# Altium schematic symbol library kmilo17pet-NSC_Amplifier.SchLib: 1665 symbols (part 20 of 44)
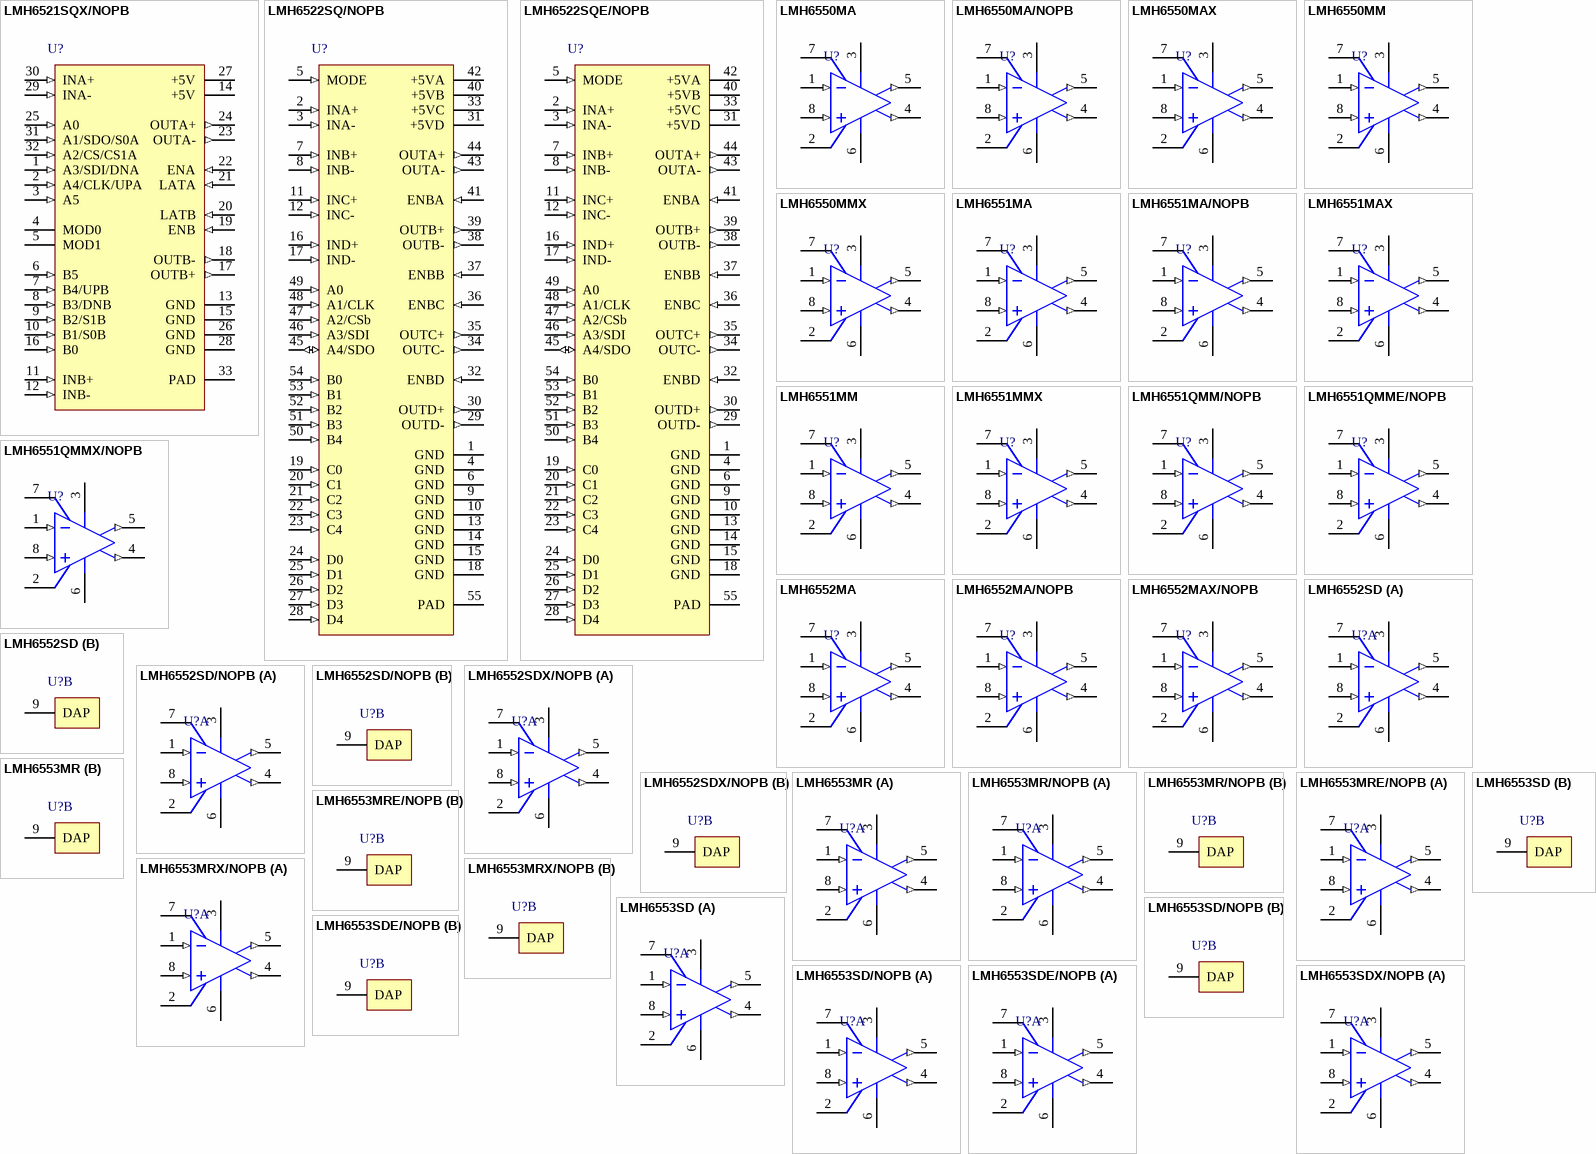
[diagram p103: symbols LMH6521SQX/NOPB to LMH6553SDX/NOPB]

## LMH6552SD/NOPB
designator U?
1.5 GHz Fully Differential Amplifier, 8-pin LLP, Pb-Free; PartNumber: LMH6552SD/NOPB; Manufacturer: National Semiconductor; PackageTopMarking: XYTT*6552; PowerWise: Y; CompType: Amplifiers; DatasheetVersion: Sep-2007; PackageVersion: revA, Jan-2004; PackageReference: SDA08C; PackageDescription: LLP, Plastic, Dual, 2.5 x 3.0 x 0.8mm Body, 8 Lead, 0.5mm Pitch, No Pullback; RoHS: Y; PinCount: 8; High-Reliability: Y; ComponentLink1Description: Manufacturer URL; ComponentLink1URL: http://www.national.com/; ComponentLink2Description: LMH6552 Datasheet; ComponentLink2URL: http://www.national.com/ds/LM/LMH6552.pdf; ComponentLink3Description: LMH6552 Web Page; ComponentLink3URL: http://www.national.com/pf/LM/LMH6552.html; ComponentLink4Description: SDA08C Package Page; ComponentLink4URL: http://www.national.com/packaging/folders/sda08c.html
footprint SDA08C (SON, 8-Leads, Body 2.5x3mm, Pitch 0.5mm, NSC Recommended)
part A pins: 1 IN- (in), 2 VCM, 3 V+ (power), 4 OUT+ (out), 5 OUT- (out), 6 V- (power), 7 EN, 8 IN+ (in)
part B pins: 9 DAP

## LMH6552SDX/NOPB
designator U?
1.5 GHz Fully Differential Amplifier, 8-pin LLP, Pb-Free; PartNumber: LMH6552SDX/NOPB; Manufacturer: National Semiconductor; PackageTopMarking: XYTT*6552; PowerWise: Y; CompType: Amplifiers; DatasheetVersion: Sep-2007; PackageVersion: revA, Jan-2004; PackageReference: SDA08C; PackageDescription: LLP, Plastic, Dual, 2.5 x 3.0 x 0.8mm Body, 8 Lead, 0.5mm Pitch, No Pullback; RoHS: Y; PinCount: 8; High-Reliability: Y; ComponentLink1Description: Manufacturer URL; ComponentLink1URL: http://www.national.com/; ComponentLink2Description: LMH6552 Datasheet; ComponentLink2URL: http://www.national.com/ds/LM/LMH6552.pdf; ComponentLink3Description: LMH6552 Web Page; ComponentLink3URL: http://www.national.com/pf/LM/LMH6552.html; ComponentLink4Description: SDA08C Package Page; ComponentLink4URL: http://www.national.com/packaging/folders/sda08c.html
footprint SDA08C (SON, 8-Leads, Body 2.5x3mm, Pitch 0.5mm, NSC Recommended)
part A pins: 1 IN- (in), 2 VCM, 3 V+ (power), 4 OUT+ (out), 5 OUT- (out), 6 V- (power), 7 EN, 8 IN+ (in)
part B pins: 9 DAP

## LMH6553MR
designator U?
900 MHz Fully Differential Amplifier with Output Limiting Clamp, 9-pin PSOP; PartNumber: LMH6553; Manufacturer: National Semiconductor; PackageTopMarking: NSXYTT*LMH65*53MR; PowerWise: Y; CompType: Amplifiers; DatasheetVersion: Nov-2008; PackageVersion: revB, Dec-2007; PackageReference: MRA08B; PackageDescription: Molded, PSOP .193 x .154 x .058in, 8 Lead, .050in Pitch, Large DAP; RoHS: Y; PinCount: 8; High-Reliability: Y; Code_JEDEC: MS-012-AA; ComponentLink1Description: Manufacturer URL; ComponentLink1URL: http://www.national.com/; ComponentLink2Description: LMH6553 Datasheet; ComponentLink2URL: http://www.national.com/ds/LM/LMH6553.pdf; ComponentLink3Description: LMH6553 Web Page; ComponentLink3URL: http://www.national.com/pf/LM/LMH6553.html; ComponentLink4Description: MRA08B Package Page; ComponentLink4URL: http://www.national.com/packaging/folders/mra08b.html
footprint MRA08B_N (SOIC, 8-Leads, Body 4.9x3.9mm, Pitch 1.27mm, Thermal Pad, IPC Medium Density)
footprint MRA08B_L (SOIC, 8-Leads, Body 4.9x3.9mm, Pitch 1.27mm, Thermal Pad, IPC High Density)
footprint MRA08B_M (SOIC, 8-Leads, Body 4.9x3.9mm, Pitch 1.27mm, Thermal Pad, IPC Low Density)
part A pins: 1 IN- (in), 2 VCM, 3 V+ (power), 4 OUT+ (out), 5 OUT- (out), 6 V- (power), 7 VCLAMP, 8 IN+ (in)
part B pins: 9 DAP

## LMH6553MR/NOPB
designator U?
900 MHz Fully Differential Amplifier with Output Limiting Clamp, 8-pin PSOP, Pb-Free; PartNumber: LMH6553MR/NOPB; Manufacturer: National Semiconductor; PackageTopMarking: NSXYTT*LMH65*53MR; PowerWise: Y; CompType: Amplifiers; DatasheetVersion: Nov-2008; PackageVersion: revB, Dec-2007; PackageReference: MRA08B; PackageDescription: Molded, PSOP .193 x .154 x .058in, 8 Lead, .050in Pitch, Large DAP; RoHS: Y; PinCount: 8; High-Reliability: Y; Code_JEDEC: MS-012-AA; ComponentLink1Description: Manufacturer URL; ComponentLink1URL: http://www.national.com/; ComponentLink2Description: LMH6553 Datasheet; ComponentLink2URL: http://www.national.com/ds/LM/LMH6553.pdf; ComponentLink3Description: LMH6553 Web Page; ComponentLink3URL: http://www.national.com/pf/LM/LMH6553.html; ComponentLink4Description: MRA08B Package Page; ComponentLink4URL: http://www.national.com/packaging/folders/mra08b.html
footprint MRA08B_N (SOIC, 8-Leads, Body 4.9x3.9mm, Pitch 1.27mm, Thermal Pad, IPC Medium Density)
footprint MRA08B_L (SOIC, 8-Leads, Body 4.9x3.9mm, Pitch 1.27mm, Thermal Pad, IPC High Density)
footprint MRA08B_M (SOIC, 8-Leads, Body 4.9x3.9mm, Pitch 1.27mm, Thermal Pad, IPC Low Density)
part A pins: 1 IN- (in), 2 VCM, 3 V+ (power), 4 OUT+ (out), 5 OUT- (out), 6 V- (power), 7 VCLAMP, 8 IN+ (in)
part B pins: 9 DAP

## LMH6553MRE/NOPB
designator U?
900 MHz Fully Differential Amplifier with Output Limiting Clamp, 8-pin PSOP, Pb-Free; PartNumber: LMH6553MRE/NOPB; Manufacturer: National Semiconductor; PackageTopMarking: NSXYTT*LMH65*53MR; PowerWise: Y; CompType: Amplifiers; DatasheetVersion: Nov-2008; PackageVersion: revB, Dec-2007; PackageReference: MRA08B; PackageDescription: Molded, PSOP .193 x .154 x .058in, 8 Lead, .050in Pitch, Large DAP; RoHS: Y; PinCount: 8; High-Reliability: Y; Code_JEDEC: MS-012-AA; ComponentLink1Description: Manufacturer URL; ComponentLink1URL: http://www.national.com/; ComponentLink2Description: LMH6553 Datasheet; ComponentLink2URL: http://www.national.com/ds/LM/LMH6553.pdf; ComponentLink3Description: LMH6553 Web Page; ComponentLink3URL: http://www.national.com/pf/LM/LMH6553.html; ComponentLink4Description: MRA08B Package Page; ComponentLink4URL: http://www.national.com/packaging/folders/mra08b.html
footprint MRA08B_N (SOIC, 8-Leads, Body 4.9x3.9mm, Pitch 1.27mm, Thermal Pad, IPC Medium Density)
footprint MRA08B_L (SOIC, 8-Leads, Body 4.9x3.9mm, Pitch 1.27mm, Thermal Pad, IPC High Density)
footprint MRA08B_M (SOIC, 8-Leads, Body 4.9x3.9mm, Pitch 1.27mm, Thermal Pad, IPC Low Density)
part A pins: 1 IN- (in), 2 VCM, 3 V+ (power), 4 OUT+ (out), 5 OUT- (out), 6 V- (power), 7 VCLAMP, 8 IN+ (in)
part B pins: 9 DAP

## LMH6553MRX/NOPB
designator U?
900 MHz Fully Differential Amplifier with Output Limiting Clamp, 8-pin PSOP, Pb-Free; PartNumber: LMH6553MRX/NOPB; Manufacturer: National Semiconductor; PackageTopMarking: NSXYTT*LMH65*53MR; PowerWise: Y; CompType: Amplifiers; DatasheetVersion: Nov-2008; PackageVersion: revB, Dec-2007; PackageReference: MRA08B; PackageDescription: Molded, PSOP .193 x .154 x .058in, 8 Lead, .050in Pitch, Large DAP; RoHS: Y; PinCount: 8; High-Reliability: Y; Code_JEDEC: MS-012-AA; ComponentLink1Description: Manufacturer URL; ComponentLink1URL: http://www.national.com/; ComponentLink2Description: LMH6553 Datasheet; ComponentLink2URL: http://www.national.com/ds/LM/LMH6553.pdf; ComponentLink3Description: LMH6553 Web Page; ComponentLink3URL: http://www.national.com/pf/LM/LMH6553.html; ComponentLink4Description: MRA08B Package Page; ComponentLink4URL: http://www.national.com/packaging/folders/mra08b.html
footprint MRA08B_N (SOIC, 8-Leads, Body 4.9x3.9mm, Pitch 1.27mm, Thermal Pad, IPC Medium Density)
footprint MRA08B_L (SOIC, 8-Leads, Body 4.9x3.9mm, Pitch 1.27mm, Thermal Pad, IPC High Density)
footprint MRA08B_M (SOIC, 8-Leads, Body 4.9x3.9mm, Pitch 1.27mm, Thermal Pad, IPC Low Density)
part A pins: 1 IN- (in), 2 VCM, 3 V+ (power), 4 OUT+ (out), 5 OUT- (out), 6 V- (power), 7 VCLAMP, 8 IN+ (in)
part B pins: 9 DAP

## LMH6553SD
designator U?
900 MHz Fully Differential Amplifier with Output Limiting Clamp, 8-pin LLP; PartNumber: LMH6553; Manufacturer: National Semiconductor; PackageTopMarking: XYTT*6553; PowerWise: Y; CompType: Amplifiers; DatasheetVersion: Nov-2008; PackageVersion: revA, Jan-2004; PackageReference: SDA08C; PackageDescription: LLP, Plastic, Dual, 2.5 x 3.0 x 0.8mm Body, 8 Lead, 0.5mm Pitch, No Pullback; RoHS: Y; PinCount: 8; High-Reliability: Y; ComponentLink1Description: Manufacturer URL; ComponentLink1URL: http://www.national.com/; ComponentLink2Description: LMH6553 Datasheet; ComponentLink2URL: http://www.national.com/ds/LM/LMH6553.pdf; ComponentLink3Description: LMH6553 Web Page; ComponentLink3URL: http://www.national.com/pf/LM/LMH6553.html; ComponentLink4Description: SDA08C Package Page; ComponentLink4URL: http://www.national.com/packaging/folders/sda08c.html
footprint SDA08C (SON, 8-Leads, Body 2.5x3mm, Pitch 0.5mm, NSC Recommended)
part A pins: 1 IN- (in), 2 VCM, 3 V+ (power), 4 OUT+ (out), 5 OUT- (out), 6 V- (power), 7 VCLAMP, 8 IN+ (in)
part B pins: 9 DAP

## LMH6553SD/NOPB
designator U?
900 MHz Fully Differential Amplifier with Output Limiting Clamp, 8-pin LLP, Pb-Free; PartNumber: LMH6553SD/NOPB; Manufacturer: National Semiconductor; PackageTopMarking: XYTT*6553; PowerWise: Y; CompType: Amplifiers; DatasheetVersion: Nov-2008; PackageVersion: revA, Jan-2004; PackageReference: SDA08C; PackageDescription: LLP, Plastic, Dual, 2.5 x 3.0 x 0.8mm Body, 8 Lead, 0.5mm Pitch, No Pullback; RoHS: Y; PinCount: 8; High-Reliability: Y; ComponentLink1Description: Manufacturer URL; ComponentLink1URL: http://www.national.com/; ComponentLink2Description: LMH6553 Datasheet; ComponentLink2URL: http://www.national.com/ds/LM/LMH6553.pdf; ComponentLink3Description: LMH6553 Web Page; ComponentLink3URL: http://www.national.com/pf/LM/LMH6553.html; ComponentLink4Description: SDA08C Package Page; ComponentLink4URL: http://www.national.com/packaging/folders/sda08c.html
footprint SDA08C (SON, 8-Leads, Body 2.5x3mm, Pitch 0.5mm, NSC Recommended)
part A pins: 1 IN- (in), 2 VCM, 3 V+ (power), 4 OUT+ (out), 5 OUT- (out), 6 V- (power), 7 VCLAMP, 8 IN+ (in)
part B pins: 9 DAP

## LMH6553SDE/NOPB
designator U?
900 MHz Fully Differential Amplifier with Output Limiting Clamp, 8-pin LLP, Pb-Free; PartNumber: LMH6553SDE/NOPB; Manufacturer: National Semiconductor; PackageTopMarking: XYTT*6553; PowerWise: Y; CompType: Amplifiers; DatasheetVersion: Nov-2008; PackageVersion: revA, Jan-2004; PackageReference: SDA08C; PackageDescription: LLP, Plastic, Dual, 2.5 x 3.0 x 0.8mm Body, 8 Lead, 0.5mm Pitch, No Pullback; RoHS: Y; PinCount: 8; High-Reliability: Y; ComponentLink1Description: Manufacturer URL; ComponentLink1URL: http://www.national.com/; ComponentLink2Description: LMH6553 Datasheet; ComponentLink2URL: http://www.national.com/ds/LM/LMH6553.pdf; ComponentLink3Description: LMH6553 Web Page; ComponentLink3URL: http://www.national.com/pf/LM/LMH6553.html; ComponentLink4Description: SDA08C Package Page; ComponentLink4URL: http://www.national.com/packaging/folders/sda08c.html
footprint SDA08C (SON, 8-Leads, Body 2.5x3mm, Pitch 0.5mm, NSC Recommended)
part A pins: 1 IN- (in), 2 VCM, 3 V+ (power), 4 OUT+ (out), 5 OUT- (out), 6 V- (power), 7 VCLAMP, 8 IN+ (in)
part B pins: 9 DAP

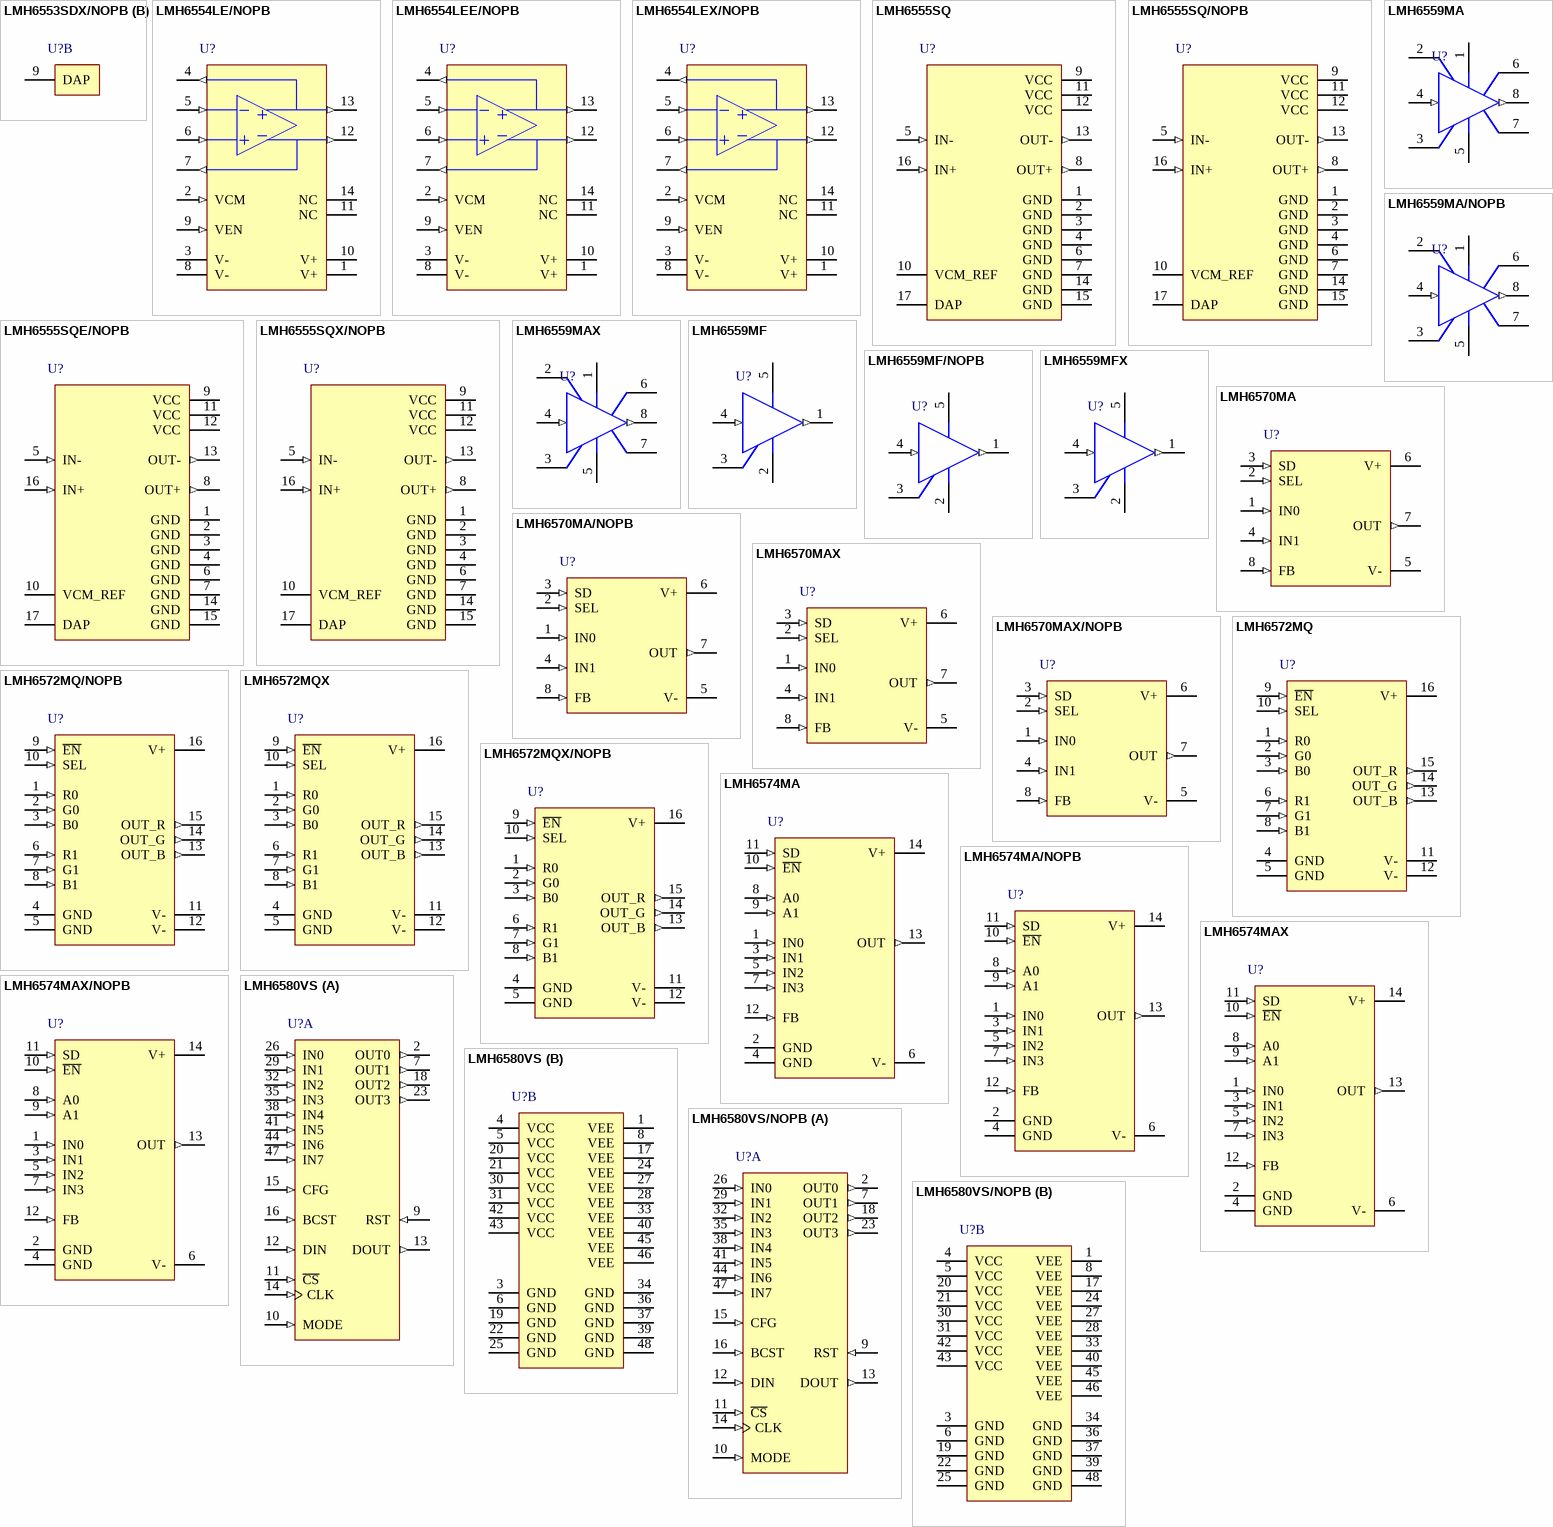
[diagram p42: symbols LMH6553SDX/NOPB to LMH6580VS/NOPB]

## LMH6553SDX/NOPB
designator U?
900 MHz Fully Differential Amplifier with Output Limiting Clamp, 8-pin LLP, Pb-Free; PartNumber: LMH6553SDX/NOPB; Manufacturer: National Semiconductor; PackageTopMarking: XYTT*6553; PowerWise: Y; CompType: Amplifiers; DatasheetVersion: Nov-2008; PackageVersion: revA, Jan-2004; PackageReference: SDA08C; PackageDescription: LLP, Plastic, Dual, 2.5 x 3.0 x 0.8mm Body, 8 Lead, 0.5mm Pitch, No Pullback; RoHS: Y; PinCount: 8; High-Reliability: Y; ComponentLink1Description: Manufacturer URL; ComponentLink1URL: http://www.national.com/; ComponentLink2Description: LMH6553 Datasheet; ComponentLink2URL: http://www.national.com/ds/LM/LMH6553.pdf; ComponentLink3Description: LMH6553 Web Page; ComponentLink3URL: http://www.national.com/pf/LM/LMH6553.html; ComponentLink4Description: SDA08C Package Page; ComponentLink4URL: http://www.national.com/packaging/folders/sda08c.html
footprint SDA08C (SON, 8-Leads, Body 2.5x3mm, Pitch 0.5mm, NSC Recommended)
part A pins: 1 IN- (in), 2 VCM, 3 V+ (power), 4 OUT+ (out), 5 OUT- (out), 6 V- (power), 7 VCLAMP, 8 IN+ (in)
part B pins: 9 DAP

## LMH6554LE/NOPB
designator U?
2.8 GHz Ultra Linear Fully Differential Amplifier, 14-pin LLP, Pb-Free; PartNumber: LMH6554LE/NOPB; Manufacturer: National Semiconductor; PackageTopMarking: XYTT*AJA; PowerWise: Y; CompType: Amplifiers; DatasheetVersion: Oct-2009; PackageVersion: revB, Apr-2008; PackageReference: LEE14A; PackageDescription: LLP, Plastic, Quad, 2.5 x 2.5 x 0.6mm Body, 14 Lead, 0.4mm Pitch, No Pullback; RoHS: Y; PinCount: 14; High-Reliability: Y; ComponentLink1Description: Manufacturer URL; ComponentLink1URL: http://www.national.com/; ComponentLink2Description: LMH6554 Datasheet; ComponentLink2URL: http://www.national.com/ds/LM/LMH6554.pdf; ComponentLink3Description: LMH6554 Web Page; ComponentLink3URL: http://www.national.com/pf/LM/LMH6554.html; ComponentLink4Description: LEE14A Package Page; ComponentLink4URL: http://www.national.com/packaging/folders/lee14a.html
footprint LEE14A (QFN, 14-Leads, Body 2.5x2.5 mm, Pitch 0.4mm, NSC Recommended)
pins: 1 V+ (power), 2 VCM (in), 3 V- (power), 4 +FB (out), 5 -IN (in), 6 +IN (in), 7 -FB (out), 8 V- (power), 9 VEN (in), 10 V+ (power), 11 NC, 12 -OUT (out), 13 +OUT (out), 14 NC

## LMH6554LEE/NOPB
designator U?
2.8 GHz Ultra Linear Fully Differential Amplifier, 14-pin LLP, Pb-Free; PartNumber: LMH6554LEE/NOPB; Manufacturer: National Semiconductor; PackageTopMarking: XYTT*AJA; PowerWise: Y; CompType: Amplifiers; DatasheetVersion: Oct-2009; PackageVersion: revB, Apr-2008; PackageReference: LEE14A; PackageDescription: LLP, Plastic, Quad, 2.5 x 2.5 x 0.6mm Body, 14 Lead, 0.4mm Pitch, No Pullback; RoHS: Y; PinCount: 14; High-Reliability: Y; ComponentLink1Description: Manufacturer URL; ComponentLink1URL: http://www.national.com/; ComponentLink2Description: LMH6554 Datasheet; ComponentLink2URL: http://www.national.com/ds/LM/LMH6554.pdf; ComponentLink3Description: LMH6554 Web Page; ComponentLink3URL: http://www.national.com/pf/LM/LMH6554.html; ComponentLink4Description: LEE14A Package Page; ComponentLink4URL: http://www.national.com/packaging/folders/lee14a.html
footprint LEE14A (QFN, 14-Leads, Body 2.5x2.5 mm, Pitch 0.4mm, NSC Recommended)
pins: 1 V+ (power), 2 VCM (in), 3 V- (power), 4 +FB (out), 5 -IN (in), 6 +IN (in), 7 -FB (out), 8 V- (power), 9 VEN (in), 10 V+ (power), 11 NC, 12 -OUT (out), 13 +OUT (out), 14 NC

## LMH6554LEX/NOPB
designator U?
2.8 GHz Ultra Linear Fully Differential Amplifier, 14-pin LLP, Pb-Free; PartNumber: LMH6554LEX/NOPB; Manufacturer: National Semiconductor; PackageTopMarking: XYTT*AJA; PowerWise: Y; CompType: Amplifiers; DatasheetVersion: Oct-2009; PackageVersion: revB, Apr-2008; PackageReference: LEE14A; PackageDescription: LLP, Plastic, Quad, 2.5 x 2.5 x 0.6mm Body, 14 Lead, 0.4mm Pitch, No Pullback; RoHS: Y; PinCount: 14; High-Reliability: Y; ComponentLink1Description: Manufacturer URL; ComponentLink1URL: http://www.national.com/; ComponentLink2Description: LMH6554 Datasheet; ComponentLink2URL: http://www.national.com/ds/LM/LMH6554.pdf; ComponentLink3Description: LMH6554 Web Page; ComponentLink3URL: http://www.national.com/pf/LM/LMH6554.html; ComponentLink4Description: LEE14A Package Page; ComponentLink4URL: http://www.national.com/packaging/folders/lee14a.html
footprint LEE14A (QFN, 14-Leads, Body 2.5x2.5 mm, Pitch 0.4mm, NSC Recommended)
pins: 1 V+ (power), 2 VCM (in), 3 V- (power), 4 +FB (out), 5 -IN (in), 6 +IN (in), 7 -FB (out), 8 V- (power), 9 VEN (in), 10 V+ (power), 11 NC, 12 -OUT (out), 13 +OUT (out), 14 NC

## LMH6555SQ
designator U?
Low Distortion 1.2 GHz Differential Driver, 16-pin LLP; PartNumber: LMH6555SQ; Manufacturer: National Semiconductor; PackageTopMarking: NS*UZXYTT*L6555SQ; PowerWise: Y; CompType: Amplifiers; DatasheetVersion: Dec-2007; PackageVersion: revA, Oct-2003; PackageReference: SQA16A; PackageDescription: LLP, Plastic, Quad, 4 x 4 x 0.8mm Body, 16 Lead, 0.5mm Pitch, No Pullback; RoHS: Y; PinCount: 16; High-Reliability: Y; ComponentLink1Description: Manufacturer URL; ComponentLink1URL: http://www.national.com/; ComponentLink2Description: LMH6555 Datasheet; ComponentLink2URL: http://www.national.com/ds/LM/LMH6555.pdf; ComponentLink3Description: LMH6555 Web Page; ComponentLink3URL: http://www.national.com/pf/LM/LMH6555.html; ComponentLink4Description: SQA16A Package Page; ComponentLink4URL: http://www.national.com/packaging/folders/sqa16a.html
footprint SQA16A (QFN, 16-Leads, Body 4x4mm, Pitch 0.5mm, Thermal Pad 2.7x2.7mm, NSC Recommended)
pins: 1 GND (power), 2 GND (power), 3 GND (power), 4 GND (power), 5 IN- (in), 6 GND (power), 7 GND (power), 8 OUT+ (out), 9 VCC (power), 10 VCM_REF, 11 VCC (power), 12 VCC (power), 13 OUT- (out), 14 GND (power), 15 GND (power), 16 IN+ (in), 17 DAP

## LMH6555SQ/NOPB
designator U?
Low Distortion 1.2 GHz Differential Driver, 16-pin LLP, Pb-Free; PartNumber: LMH6555SQ/NOPB; Manufacturer: National Semiconductor; PackageTopMarking: NS*UZXYTT*L6555SQ; PowerWise: Y; CompType: Amplifiers; DatasheetVersion: Dec-2007; PackageVersion: revA, Oct-2003; PackageReference: SQA16A; PackageDescription: LLP, Plastic, Quad, 4 x 4 x 0.8mm Body, 16 Lead, 0.5mm Pitch, No Pullback; RoHS: Y; PinCount: 16; High-Reliability: Y; ComponentLink1Description: Manufacturer URL; ComponentLink1URL: http://www.national.com/; ComponentLink2Description: LMH6555 Datasheet; ComponentLink2URL: http://www.national.com/ds/LM/LMH6555.pdf; ComponentLink3Description: LMH6555 Web Page; ComponentLink3URL: http://www.national.com/pf/LM/LMH6555.html; ComponentLink4Description: SQA16A Package Page; ComponentLink4URL: http://www.national.com/packaging/folders/sqa16a.html
footprint SQA16A (QFN, 16-Leads, Body 4x4mm, Pitch 0.5mm, Thermal Pad 2.7x2.7mm, NSC Recommended)
pins: 1 GND (power), 2 GND (power), 3 GND (power), 4 GND (power), 5 IN- (in), 6 GND (power), 7 GND (power), 8 OUT+ (out), 9 VCC (power), 10 VCM_REF, 11 VCC (power), 12 VCC (power), 13 OUT- (out), 14 GND (power), 15 GND (power), 16 IN+ (in), 17 DAP

## LMH6555SQE/NOPB
designator U?
Low Distortion 1.2 GHz Differential Driver, 16-pin LLP, Pb-Free; PartNumber: LMH6555SQE/NOPB; Manufacturer: National Semiconductor; PackageTopMarking: NS*UZXYTT*L6555SQ; PowerWise: N; CompType: Amplifiers; High-Reliability: Y; DatasheetVersion: Dec-2007; PackageVersion: revA, Oct-2003; PackageReference: SQA16A; PackageDescription: LLP, Plastic, Quad, 4 x 4 x 0.8mm Body, 16 Lead, 0.5mm Pitch, No Pullback; RoHS: Y; PinCount: 16; ComponentLink1Description: Manufacturer URL; ComponentLink1URL: http://www.national.com/; ComponentLink2Description: LMH6555 Datasheet; ComponentLink2URL: http://www.national.com/ds/LM/LMH6555.pdf; ComponentLink3Description: LMH6555 Web Page; ComponentLink3URL: http://www.national.com/pf/LM/LMH6555.html; ComponentLink4Description: SQA16A Package Page; ComponentLink4URL: http://www.national.com/packaging/folders/sqa16a.html
footprint SQA16A (QFN, 16-Leads, Body 4x4mm, Pitch 0.5mm, Thermal Pad 2.7x2.7mm, NSC Recommended)
pins: 1 GND (power), 2 GND (power), 3 GND (power), 4 GND (power), 5 IN- (in), 6 GND (power), 7 GND (power), 8 OUT+ (out), 9 VCC (power), 10 VCM_REF, 11 VCC (power), 12 VCC (power), 13 OUT- (out), 14 GND (power), 15 GND (power), 16 IN+ (in), 17 DAP

## LMH6555SQX/NOPB
designator U?
Low Distortion 1.2 GHz Differential Driver, 16-pin LLP, Pb-Free; PartNumber: LMH6555SQX/NOPB; Manufacturer: National Semiconductor; PackageTopMarking: NS*UZXYTT*L6555SQ; PowerWise: Y; CompType: Amplifiers; DatasheetVersion: Dec-2007; PackageVersion: revA, Oct-2003; PackageReference: SQA16A; PackageDescription: LLP, Plastic, Quad, 4 x 4 x 0.8mm Body, 16 Lead, 0.5mm Pitch, No Pullback; RoHS: Y; PinCount: 16; High-Reliability: Y; ComponentLink1Description: Manufacturer URL; ComponentLink1URL: http://www.national.com/; ComponentLink2Description: LMH6555 Datasheet; ComponentLink2URL: http://www.national.com/ds/LM/LMH6555.pdf; ComponentLink3Description: LMH6555 Web Page; ComponentLink3URL: http://www.national.com/pf/LM/LMH6555.html; ComponentLink4Description: SQA16A Package Page; ComponentLink4URL: http://www.national.com/packaging/folders/sqa16a.html
footprint SQA16A (QFN, 16-Leads, Body 4x4mm, Pitch 0.5mm, Thermal Pad 2.7x2.7mm, NSC Recommended)
pins: 1 GND (power), 2 GND (power), 3 GND (power), 4 GND (power), 5 IN- (in), 6 GND (power), 7 GND (power), 8 OUT+ (out), 9 VCC (power), 10 VCM_REF, 11 VCC (power), 12 VCC (power), 13 OUT- (out), 14 GND (power), 15 GND (power), 16 IN+ (in), 17 DAP

## LMH6559MA
designator U?
High-Speed, Closed-Loop Buffer, 8-pin Narrow SOIC; PartNumber: LMH6559MA; Manufacturer: National Semiconductor; PackageTopMarking: NSZXTT*LMH65*59MA; PowerWise: N; CompType: Amplifiers; High-Reliability: Y; DatasheetVersion: Jul-2006; PackageVersion: revM, May-2009; PackageReference: M08A; PackageDescription: SOIC Narrow, 4.9 x 3.9 x 1.45mm, 8 Lead, 1.27mm Pitch; RoHS: N; PinCount: 8; Code_JEDEC: MS-012-AA; Code_IPC: SOIC127P600-8; ComponentLink1Description: Manufacturer URL; ComponentLink1URL: http://www.national.com/; ComponentLink2Description: LMH6559 Datasheet; ComponentLink2URL: http://www.national.com/ds/LM/LMH6559.pdf; ComponentLink3Description: LMH6559 Web Page; ComponentLink3URL: http://www.national.com/pf/LM/LMH6559.html; ComponentLink4Description: M08A Package Page; ComponentLink4URL: http://www.national.com/packaging/folders/m08a.html
footprint M08A_N (SOIC, 8-Leads, Body 4.9x3.9mm, Pitch 1.27mm, IPC Medium Density)
footprint M08A_L (SOIC, 8-Leads, Body 4.9x3.9mm, Pitch 1.27mm, IPC High Density)
footprint M08A_M (SOIC, 8-Leads, Body 4.9x3.9mm, Pitch 1.27mm, IPC Low Density)
pins: 1 VCC (power), 2 NC, 3 NC, 4 IN (in), 5 VEE (power), 6 NC, 7 NC, 8 OUT (out)

## LMH6559MA/NOPB
designator U?
High-Speed, Closed-Loop Buffer, 8-pin Narrow SOIC, Pb-Free; PartNumber: LMH6559MA/NOPB; Manufacturer: National Semiconductor; PackageTopMarking: NSZXTT*LMH65*59MA; PowerWise: N; CompType: Amplifiers; High-Reliability: Y; DatasheetVersion: Jul-2006; PackageVersion: revM, May-2009; PackageReference: M08A; PackageDescription: SOIC Narrow, 4.9 x 3.9 x 1.45mm, 8 Lead, 1.27mm Pitch; RoHS: Y; PinCount: 8; Code_JEDEC: MS-012-AA; Code_IPC: SOIC127P600-8; ComponentLink1Description: Manufacturer URL; ComponentLink1URL: http://www.national.com/; ComponentLink2Description: LMH6559 Datasheet; ComponentLink2URL: http://www.national.com/ds/LM/LMH6559.pdf; ComponentLink3Description: LMH6559 Web Page; ComponentLink3URL: http://www.national.com/pf/LM/LMH6559.html; ComponentLink4Description: M08A Package Page; ComponentLink4URL: http://www.national.com/packaging/folders/m08a.html
footprint M08A_N (SOIC, 8-Leads, Body 4.9x3.9mm, Pitch 1.27mm, IPC Medium Density)
footprint M08A_L (SOIC, 8-Leads, Body 4.9x3.9mm, Pitch 1.27mm, IPC High Density)
footprint M08A_M (SOIC, 8-Leads, Body 4.9x3.9mm, Pitch 1.27mm, IPC Low Density)
pins: 1 VCC (power), 2 NC, 3 NC, 4 IN (in), 5 VEE (power), 6 NC, 7 NC, 8 OUT (out)

## LMH6559MAX
designator U?
High-Speed, Closed-Loop Buffer, 8-pin Narrow SOIC; PartNumber: LMH6559MAX; Manufacturer: National Semiconductor; PackageTopMarking: NSZXTT*LMH65*59MA; PowerWise: N; CompType: Amplifiers; High-Reliability: Y; DatasheetVersion: Jul-2006; PackageVersion: revM, May-2009; PackageReference: M08A; PackageDescription: SOIC Narrow, 4.9 x 3.9 x 1.45mm, 8 Lead, 1.27mm Pitch; RoHS: N; PinCount: 8; Code_JEDEC: MS-012-AA; Code_IPC: SOIC127P600-8; ComponentLink1Description: Manufacturer URL; ComponentLink1URL: http://www.national.com/; ComponentLink2Description: LMH6559 Datasheet; ComponentLink2URL: http://www.national.com/ds/LM/LMH6559.pdf; ComponentLink3Description: LMH6559 Web Page; ComponentLink3URL: http://www.national.com/pf/LM/LMH6559.html; ComponentLink4Description: M08A Package Page; ComponentLink4URL: http://www.national.com/packaging/folders/m08a.html
footprint M08A_N (SOIC, 8-Leads, Body 4.9x3.9mm, Pitch 1.27mm, IPC Medium Density)
footprint M08A_L (SOIC, 8-Leads, Body 4.9x3.9mm, Pitch 1.27mm, IPC High Density)
footprint M08A_M (SOIC, 8-Leads, Body 4.9x3.9mm, Pitch 1.27mm, IPC Low Density)
pins: 1 VCC (power), 2 NC, 3 NC, 4 IN (in), 5 VEE (power), 6 NC, 7 NC, 8 OUT (out)

## LMH6559MF
designator U?
High-Speed, Closed-Loop Buffer, 5-pin SOT-23; PartNumber: LMH6559MF; Manufacturer: National Semiconductor; PackageTopMarking: B05A*XTT; PowerWise: N; CompType: Amplifiers; High-Reliability: Y; DatasheetVersion: Jul-2006; PackageVersion: revD, Aug-2008; PackageReference: MF05A; PackageDescription: Molded SOT-23, .115 x .063 x .040 in Body, 5 Lead, .0375 in Pitch; RoHS: N; PinCount: 5; ComponentLink1Description: Manufacturer URL; ComponentLink1URL: http://www.national.com/; ComponentLink2Description: LMH6559 Datasheet; ComponentLink2URL: http://www.national.com/ds/LM/LMH6559.pdf; ComponentLink3Description: LMH6559 Web Page; ComponentLink3URL: http://www.national.com/pf/LM/LMH6559.html; ComponentLink4Description: MF05A Package Page; ComponentLink4URL: http://www.national.com/packaging/folders/mf05a.html
footprint MF05A_N (SOT23, 5-Leads, Body 2.9x1.6mm, Pitch 0.95mm, Lead Span 2.8mm, IPC Medium Density)
footprint MF05A_L (SOT23, 5-Leads, Body 2.9x1.6mm, Pitch 0.95mm, Lead Span 2.8mm, IPC High Density)
footprint MF05A_M (SOT23, 5-Leads, Body 2.9x1.6mm, Pitch 0.95mm, Lead Span 2.8mm, IPC Low Density)
pins: 1 OUT (out), 2 VEE (power), 3 NC, 4 IN (in), 5 VCC (power)

## LMH6559MF/NOPB
designator U?
High-Speed, Closed-Loop Buffer, 5-pin SOT-23, Pb-Free; PartNumber: LMH6559MF/NOPB; Manufacturer: National Semiconductor; PackageTopMarking: B05A*XTT; PowerWise: N; CompType: Amplifiers; High-Reliability: Y; DatasheetVersion: Jul-2006; PackageVersion: revD, Aug-2008; PackageReference: MF05A; PackageDescription: Molded SOT-23, .115 x .063 x .040 in Body, 5 Lead, .0375 in Pitch; RoHS: Y; PinCount: 5; ComponentLink1Description: Manufacturer URL; ComponentLink1URL: http://www.national.com/; ComponentLink2Description: LMH6559 Datasheet; ComponentLink2URL: http://www.national.com/ds/LM/LMH6559.pdf; ComponentLink3Description: LMH6559 Web Page; ComponentLink3URL: http://www.national.com/pf/LM/LMH6559.html; ComponentLink4Description: MF05A Package Page; ComponentLink4URL: http://www.national.com/packaging/folders/mf05a.html
footprint MF05A_N (SOT23, 5-Leads, Body 2.9x1.6mm, Pitch 0.95mm, Lead Span 2.8mm, IPC Medium Density)
footprint MF05A_L (SOT23, 5-Leads, Body 2.9x1.6mm, Pitch 0.95mm, Lead Span 2.8mm, IPC High Density)
footprint MF05A_M (SOT23, 5-Leads, Body 2.9x1.6mm, Pitch 0.95mm, Lead Span 2.8mm, IPC Low Density)
pins: 1 OUT (out), 2 VEE (power), 3 NC, 4 IN (in), 5 VCC (power)

## LMH6559MFX
designator U?
High-Speed, Closed-Loop Buffer, 5-pin SOT-23; PartNumber: LMH6559MFX; Manufacturer: National Semiconductor; PackageTopMarking: B05A*XTT; PowerWise: N; CompType: Amplifiers; High-Reliability: Y; DatasheetVersion: Jul-2006; PackageVersion: revD, Aug-2008; PackageReference: MF05A; PackageDescription: Molded SOT-23, .115 x .063 x .040 in Body, 5 Lead, .0375 in Pitch; RoHS: N; PinCount: 5; ComponentLink1Description: Manufacturer URL; ComponentLink1URL: http://www.national.com/; ComponentLink2Description: LMH6559 Datasheet; ComponentLink2URL: http://www.national.com/ds/LM/LMH6559.pdf; ComponentLink3Description: LMH6559 Web Page; ComponentLink3URL: http://www.national.com/pf/LM/LMH6559.html; ComponentLink4Description: MF05A Package Page; ComponentLink4URL: http://www.national.com/packaging/folders/mf05a.html
footprint MF05A_N (SOT23, 5-Leads, Body 2.9x1.6mm, Pitch 0.95mm, Lead Span 2.8mm, IPC Medium Density)
footprint MF05A_L (SOT23, 5-Leads, Body 2.9x1.6mm, Pitch 0.95mm, Lead Span 2.8mm, IPC High Density)
footprint MF05A_M (SOT23, 5-Leads, Body 2.9x1.6mm, Pitch 0.95mm, Lead Span 2.8mm, IPC Low Density)
pins: 1 OUT (out), 2 VEE (power), 3 NC, 4 IN (in), 5 VCC (power)

## LMH6570MA
designator U?
2:1 High Speed Video Multiplexer, 8-pin Narrow SOIC; PartNumber: LMH6570MA; Manufacturer: National Semiconductor; PackageTopMarking: NSZXTT*LMH65*70MA; PowerWise: N; CompType: Amplifiers; High-Reliability: Y; DatasheetVersion: May-2005; PackageVersion: revM, May-2009; PackageReference: M08A; PackageDescription: SOIC Narrow, 4.9 x 3.9 x 1.45mm, 8 Lead, 1.27mm Pitch; RoHS: N; PinCount: 8; Code_JEDEC: MS-012-AA; Code_IPC: SOIC127P600-8; ComponentLink1Description: Manufacturer URL; ComponentLink1URL: http://www.national.com/; ComponentLink2Description: LMH6570 Datasheet; ComponentLink2URL: http://www.national.com/ds/LM/LMH6570.pdf; ComponentLink3Description: LMH6570 Web Page; ComponentLink3URL: http://www.national.com/pf/LM/LMH6570.html; ComponentLink4Description: M08A Package Page; ComponentLink4URL: http://www.national.com/packaging/folders/m08a.html
footprint M08A_N (SOIC, 8-Leads, Body 4.9x3.9mm, Pitch 1.27mm, IPC Medium Density)
footprint M08A_L (SOIC, 8-Leads, Body 4.9x3.9mm, Pitch 1.27mm, IPC High Density)
footprint M08A_M (SOIC, 8-Leads, Body 4.9x3.9mm, Pitch 1.27mm, IPC Low Density)
pins: 1 IN0 (in), 2 SEL (in), 3 SD (in), 4 IN1 (in), 5 V- (power), 6 V+ (power), 7 OUT (out), 8 FB (in)

## LMH6570MA/NOPB
designator U?
2:1 High Speed Video Multiplexer, 8-pin Narrow SOIC, Pb-Free; PartNumber: LMH6570MA/NOPB; Manufacturer: National Semiconductor; PackageTopMarking: NSZXTT*LMH65*70MA; PowerWise: N; CompType: Amplifiers; High-Reliability: Y; DatasheetVersion: May-2005; PackageVersion: revM, May-2009; PackageReference: M08A; PackageDescription: SOIC Narrow, 4.9 x 3.9 x 1.45mm, 8 Lead, 1.27mm Pitch; RoHS: Y; PinCount: 8; Code_JEDEC: MS-012-AA; Code_IPC: SOIC127P600-8; ComponentLink1Description: Manufacturer URL; ComponentLink1URL: http://www.national.com/; ComponentLink2Description: LMH6570 Datasheet; ComponentLink2URL: http://www.national.com/ds/LM/LMH6570.pdf; ComponentLink3Description: LMH6570 Web Page; ComponentLink3URL: http://www.national.com/pf/LM/LMH6570.html; ComponentLink4Description: M08A Package Page; ComponentLink4URL: http://www.national.com/packaging/folders/m08a.html
footprint M08A_N (SOIC, 8-Leads, Body 4.9x3.9mm, Pitch 1.27mm, IPC Medium Density)
footprint M08A_L (SOIC, 8-Leads, Body 4.9x3.9mm, Pitch 1.27mm, IPC High Density)
footprint M08A_M (SOIC, 8-Leads, Body 4.9x3.9mm, Pitch 1.27mm, IPC Low Density)
pins: 1 IN0 (in), 2 SEL (in), 3 SD (in), 4 IN1 (in), 5 V- (power), 6 V+ (power), 7 OUT (out), 8 FB (in)

## LMH6570MAX
designator U?
2:1 High Speed Video Multiplexer, 8-pin Narrow SOIC; PartNumber: LMH6570MAX; Manufacturer: National Semiconductor; PackageTopMarking: NSZXTT*LMH65*70MA; PowerWise: N; CompType: Amplifiers; High-Reliability: Y; DatasheetVersion: May-2005; PackageVersion: revM, May-2009; PackageReference: M08A; PackageDescription: SOIC Narrow, 4.9 x 3.9 x 1.45mm, 8 Lead, 1.27mm Pitch; RoHS: N; PinCount: 8; Code_JEDEC: MS-012-AA; Code_IPC: SOIC127P600-8; ComponentLink1Description: Manufacturer URL; ComponentLink1URL: http://www.national.com/; ComponentLink2Description: LMH6570 Datasheet; ComponentLink2URL: http://www.national.com/ds/LM/LMH6570.pdf; ComponentLink3Description: LMH6570 Web Page; ComponentLink3URL: http://www.national.com/pf/LM/LMH6570.html; ComponentLink4Description: M08A Package Page; ComponentLink4URL: http://www.national.com/packaging/folders/m08a.html
footprint M08A_N (SOIC, 8-Leads, Body 4.9x3.9mm, Pitch 1.27mm, IPC Medium Density)
footprint M08A_L (SOIC, 8-Leads, Body 4.9x3.9mm, Pitch 1.27mm, IPC High Density)
footprint M08A_M (SOIC, 8-Leads, Body 4.9x3.9mm, Pitch 1.27mm, IPC Low Density)
pins: 1 IN0 (in), 2 SEL (in), 3 SD (in), 4 IN1 (in), 5 V- (power), 6 V+ (power), 7 OUT (out), 8 FB (in)

## LMH6570MAX/NOPB
designator U?
2:1 High Speed Video Multiplexer, 8-pin Narrow SOIC, Pb-Free; PartNumber: LMH6570MAX/NOPB; Manufacturer: National Semiconductor; PackageTopMarking: NSZXTT*LMH65*70MA; PowerWise: N; CompType: Amplifiers; High-Reliability: Y; DatasheetVersion: May-2005; PackageVersion: revM, May-2009; PackageReference: M08A; PackageDescription: SOIC Narrow, 4.9 x 3.9 x 1.45mm, 8 Lead, 1.27mm Pitch; RoHS: Y; PinCount: 8; Code_JEDEC: MS-012-AA; Code_IPC: SOIC127P600-8; ComponentLink1Description: Manufacturer URL; ComponentLink1URL: http://www.national.com/; ComponentLink2Description: LMH6570 Datasheet; ComponentLink2URL: http://www.national.com/ds/LM/LMH6570.pdf; ComponentLink3Description: LMH6570 Web Page; ComponentLink3URL: http://www.national.com/pf/LM/LMH6570.html; ComponentLink4Description: M08A Package Page; ComponentLink4URL: http://www.national.com/packaging/folders/m08a.html
footprint M08A_N (SOIC, 8-Leads, Body 4.9x3.9mm, Pitch 1.27mm, IPC Medium Density)
footprint M08A_L (SOIC, 8-Leads, Body 4.9x3.9mm, Pitch 1.27mm, IPC High Density)
footprint M08A_M (SOIC, 8-Leads, Body 4.9x3.9mm, Pitch 1.27mm, IPC Low Density)
pins: 1 IN0 (in), 2 SEL (in), 3 SD (in), 4 IN1 (in), 5 V- (power), 6 V+ (power), 7 OUT (out), 8 FB (in)

## LMH6572MQ
designator U?
Triple 2:1 Video Multiplexer, 16-pin SSOP; PartNumber: LMH6572MQ; Manufacturer: National Semiconductor; PackageTopMarking: NSXYTT*LH65*72MQ; PowerWise: N; CompType: Amplifiers; High-Reliability: Y; DatasheetVersion: Jun-2005; PackageVersion: revB, Jan-2005; PackageReference: MQA16; PackageDescription: SSOP, .150in Body Width, .025in Pitch, 16 Lead; RoHS: N; PinCount: 16; Code_JEDEC: MO-137-AB; ComponentLink1Description: Manufacturer URL; ComponentLink1URL: http://www.national.com/; ComponentLink2Description: LMH6572 Datasheet; ComponentLink2URL: http://www.national.com/ds/LM/LMH6572.pdf; ComponentLink3Description: LMH6572 Web Page; ComponentLink3URL: http://www.national.com/pf/LM/LMH6572.html; ComponentLink4Description: MQA16 Package Page; ComponentLink4URL: http://www.national.com/packaging/folders/mqa16.html
footprint MQA16_N (SOP, 16-Leads, Body 4.9x3.9mm, Pitch 0.635mm, IPC Medium Density)
footprint MQA16_L (SOP, 16-Leads, Body 4.9x3.9mm, Pitch 0.635mm, IPC High Density)
footprint MQA16_M (SOP, 16-Leads, Body 4.9x3.9mm, Pitch 0.635mm, IPC Low Density)
pins: 1 R0 (in), 2 G0 (in), 3 B0 (in), 4 GND (power), 5 GND (power), 6 R1 (in), 7 G1 (in), 8 B1 (in), 9 ~{EN} (in), 10 SEL (in), 11 V- (power), 12 V- (power), 13 OUT_B (out), 14 OUT_G (out), 15 OUT_R (out), 16 V+ (power)

## LMH6572MQ/NOPB
designator U?
Triple 2:1 Video Multiplexer, 16-pin SSOP, Pb-Free; PartNumber: LMH6572MQ/NOPB; Manufacturer: National Semiconductor; PackageTopMarking: NSXYTT*LH65*72MQ; PowerWise: N; CompType: Amplifiers; High-Reliability: Y; DatasheetVersion: Jun-2005; PackageVersion: revB, Jan-2005; PackageReference: MQA16; PackageDescription: SSOP, .150in Body Width, .025in Pitch, 16 Lead; RoHS: Y; PinCount: 16; Code_JEDEC: MO-137-AB; ComponentLink1Description: Manufacturer URL; ComponentLink1URL: http://www.national.com/; ComponentLink2Description: LMH6572 Datasheet; ComponentLink2URL: http://www.national.com/ds/LM/LMH6572.pdf; ComponentLink3Description: LMH6572 Web Page; ComponentLink3URL: http://www.national.com/pf/LM/LMH6572.html; ComponentLink4Description: MQA16 Package Page; ComponentLink4URL: http://www.national.com/packaging/folders/mqa16.html
footprint MQA16_N (SOP, 16-Leads, Body 4.9x3.9mm, Pitch 0.635mm, IPC Medium Density)
footprint MQA16_L (SOP, 16-Leads, Body 4.9x3.9mm, Pitch 0.635mm, IPC High Density)
footprint MQA16_M (SOP, 16-Leads, Body 4.9x3.9mm, Pitch 0.635mm, IPC Low Density)
pins: 1 R0 (in), 2 G0 (in), 3 B0 (in), 4 GND (power), 5 GND (power), 6 R1 (in), 7 G1 (in), 8 B1 (in), 9 ~{EN} (in), 10 SEL (in), 11 V- (power), 12 V- (power), 13 OUT_B (out), 14 OUT_G (out), 15 OUT_R (out), 16 V+ (power)

## LMH6572MQX
designator U?
Triple 2:1 Video Multiplexer, 16-pin SSOP; PartNumber: LMH6572MQX; Manufacturer: National Semiconductor; PackageTopMarking: NSXYTT*LH65*72MQ; PowerWise: N; CompType: Amplifiers; High-Reliability: Y; DatasheetVersion: Jun-2005; PackageVersion: revB, Jan-2005; PackageReference: MQA16; PackageDescription: SSOP, .150in Body Width, .025in Pitch, 16 Lead; RoHS: N; PinCount: 16; Code_JEDEC: MO-137-AB; ComponentLink1Description: Manufacturer URL; ComponentLink1URL: http://www.national.com/; ComponentLink2Description: LMH6572 Datasheet; ComponentLink2URL: http://www.national.com/ds/LM/LMH6572.pdf; ComponentLink3Description: LMH6572 Web Page; ComponentLink3URL: http://www.national.com/pf/LM/LMH6572.html; ComponentLink4Description: MQA16 Package Page; ComponentLink4URL: http://www.national.com/packaging/folders/mqa16.html
footprint MQA16_N (SOP, 16-Leads, Body 4.9x3.9mm, Pitch 0.635mm, IPC Medium Density)
footprint MQA16_L (SOP, 16-Leads, Body 4.9x3.9mm, Pitch 0.635mm, IPC High Density)
footprint MQA16_M (SOP, 16-Leads, Body 4.9x3.9mm, Pitch 0.635mm, IPC Low Density)
pins: 1 R0 (in), 2 G0 (in), 3 B0 (in), 4 GND (power), 5 GND (power), 6 R1 (in), 7 G1 (in), 8 B1 (in), 9 ~{EN} (in), 10 SEL (in), 11 V- (power), 12 V- (power), 13 OUT_B (out), 14 OUT_G (out), 15 OUT_R (out), 16 V+ (power)

## LMH6572MQX/NOPB
designator U?
Triple 2:1 Video Multiplexer, 16-pin SSOP, Pb-Free; PartNumber: LMH6572MQX/NOPB; Manufacturer: National Semiconductor; PackageTopMarking: NSXYTT*LH65*72MQ; PowerWise: N; CompType: Amplifiers; High-Reliability: Y; DatasheetVersion: Jun-2005; PackageVersion: revB, Jan-2005; PackageReference: MQA16; PackageDescription: SSOP, .150in Body Width, .025in Pitch, 16 Lead; RoHS: Y; PinCount: 16; Code_JEDEC: MO-137-AB; ComponentLink1Description: Manufacturer URL; ComponentLink1URL: http://www.national.com/; ComponentLink2Description: LMH6572 Datasheet; ComponentLink2URL: http://www.national.com/ds/LM/LMH6572.pdf; ComponentLink3Description: LMH6572 Web Page; ComponentLink3URL: http://www.national.com/pf/LM/LMH6572.html; ComponentLink4Description: MQA16 Package Page; ComponentLink4URL: http://www.national.com/packaging/folders/mqa16.html
footprint MQA16_N (SOP, 16-Leads, Body 4.9x3.9mm, Pitch 0.635mm, IPC Medium Density)
footprint MQA16_L (SOP, 16-Leads, Body 4.9x3.9mm, Pitch 0.635mm, IPC High Density)
footprint MQA16_M (SOP, 16-Leads, Body 4.9x3.9mm, Pitch 0.635mm, IPC Low Density)
pins: 1 R0 (in), 2 G0 (in), 3 B0 (in), 4 GND (power), 5 GND (power), 6 R1 (in), 7 G1 (in), 8 B1 (in), 9 ~{EN} (in), 10 SEL (in), 11 V- (power), 12 V- (power), 13 OUT_B (out), 14 OUT_G (out), 15 OUT_R (out), 16 V+ (power)

## LMH6574MA
designator U?
4:1 High Speed Video Multiplexer, 14-pin Narrow SOIC; PartNumber: LMH6574MA; Manufacturer: National Semiconductor; PackageTopMarking: NSUZXYTTE#*LMH65*74MA; PowerWise: N; CompType: Amplifiers; High-Reliability: Y; DatasheetVersion: Sep-2005; PackageVersion: revJ, Jan-1996; PackageReference: M14A; PackageDescription: Molded Package S.O., .150in Wide, 14 Lead; RoHS: N; PinCount: 14; Code_JEDEC: MS-012AB; Code_IPC: SOIC127P600-14; ComponentLink1Description: Manufacturer URL; ComponentLink1URL: http://www.national.com/; ComponentLink2Description: LMH6574 Datasheet; ComponentLink2URL: http://www.national.com/ds/LM/LMH6574.pdf; ComponentLink3Description: LMH6574 Web Page; ComponentLink3URL: http://www.national.com/pf/LM/LMH6574.html; ComponentLink4Description: M14A Package Page; ComponentLink4URL: http://www.national.com/packaging/folders/m14a.html
footprint M14A_N (SOIC, 14-Leads, Body 8.6x3.9mm, Pitch 1.27mm, IPC Medium Density)
footprint M14A_L (SOIC, 14-Leads, Body 8.6x3.9mm, Pitch 1.27mm, IPC High Density)
footprint M14A_M (SOIC, 14-Leads, Body 8.6x3.9mm, Pitch 1.27mm, IPC Low Density)
pins: 1 IN0 (in), 2 GND (power), 3 IN1 (in), 4 GND (power), 5 IN2 (in), 6 V- (power), 7 IN3 (in), 8 A0 (in), 9 A1 (in), 10 ~{EN} (in), 11 SD (in), 12 FB (in), 13 OUT (out), 14 V+ (power)

## LMH6574MA/NOPB
designator U?
4:1 High Speed Video Multiplexer, 14-pin Narrow SOIC, Pb-Free; PartNumber: LMH6574MA/NOPB; Manufacturer: National Semiconductor; PackageTopMarking: NSUZXYTTE#*LMH65*74MA; PowerWise: N; CompType: Amplifiers; High-Reliability: Y; DatasheetVersion: Sep-2005; PackageVersion: revJ, Jan-1996; PackageReference: M14A; PackageDescription: Molded Package S.O., .150in Wide, 14 Lead; RoHS: Y; PinCount: 14; Code_JEDEC: MS-012AB; Code_IPC: SOIC127P600-14; ComponentLink1Description: Manufacturer URL; ComponentLink1URL: http://www.national.com/; ComponentLink2Description: LMH6574 Datasheet; ComponentLink2URL: http://www.national.com/ds/LM/LMH6574.pdf; ComponentLink3Description: LMH6574 Web Page; ComponentLink3URL: http://www.national.com/pf/LM/LMH6574.html; ComponentLink4Description: M14A Package Page; ComponentLink4URL: http://www.national.com/packaging/folders/m14a.html
footprint M14A_N (SOIC, 14-Leads, Body 8.6x3.9mm, Pitch 1.27mm, IPC Medium Density)
footprint M14A_L (SOIC, 14-Leads, Body 8.6x3.9mm, Pitch 1.27mm, IPC High Density)
footprint M14A_M (SOIC, 14-Leads, Body 8.6x3.9mm, Pitch 1.27mm, IPC Low Density)
pins: 1 IN0 (in), 2 GND (power), 3 IN1 (in), 4 GND (power), 5 IN2 (in), 6 V- (power), 7 IN3 (in), 8 A0 (in), 9 A1 (in), 10 ~{EN} (in), 11 SD (in), 12 FB (in), 13 OUT (out), 14 V+ (power)

## LMH6574MAX
designator U?
4:1 High Speed Video Multiplexer, 14-pin Narrow SOIC; PartNumber: LMH6574MAX; Manufacturer: National Semiconductor; PackageTopMarking: NSUZXYTTE#*LMH65*74MA; PowerWise: N; CompType: Amplifiers; High-Reliability: Y; DatasheetVersion: Sep-2005; PackageVersion: revJ, Jan-1996; PackageReference: M14A; PackageDescription: Molded Package S.O., .150in Wide, 14 Lead; RoHS: N; PinCount: 14; Code_JEDEC: MS-012AB; Code_IPC: SOIC127P600-14; ComponentLink1Description: Manufacturer URL; ComponentLink1URL: http://www.national.com/; ComponentLink2Description: LMH6574 Datasheet; ComponentLink2URL: http://www.national.com/ds/LM/LMH6574.pdf; ComponentLink3Description: LMH6574 Web Page; ComponentLink3URL: http://www.national.com/pf/LM/LMH6574.html; ComponentLink4Description: M14A Package Page; ComponentLink4URL: http://www.national.com/packaging/folders/m14a.html
footprint M14A_N (SOIC, 14-Leads, Body 8.6x3.9mm, Pitch 1.27mm, IPC Medium Density)
footprint M14A_L (SOIC, 14-Leads, Body 8.6x3.9mm, Pitch 1.27mm, IPC High Density)
footprint M14A_M (SOIC, 14-Leads, Body 8.6x3.9mm, Pitch 1.27mm, IPC Low Density)
pins: 1 IN0 (in), 2 GND (power), 3 IN1 (in), 4 GND (power), 5 IN2 (in), 6 V- (power), 7 IN3 (in), 8 A0 (in), 9 A1 (in), 10 ~{EN} (in), 11 SD (in), 12 FB (in), 13 OUT (out), 14 V+ (power)

## LMH6574MAX/NOPB
designator U?
4:1 High Speed Video Multiplexer, 14-pin Narrow SOIC, Pb-Free; PartNumber: LMH6574MAX/NOPB; Manufacturer: National Semiconductor; PackageTopMarking: NSUZXYTTE#*LMH65*74MA; PowerWise: N; CompType: Amplifiers; High-Reliability: Y; DatasheetVersion: Sep-2005; PackageVersion: revJ, Jan-1996; PackageReference: M14A; PackageDescription: Molded Package S.O., .150in Wide, 14 Lead; RoHS: Y; PinCount: 14; Code_JEDEC: MS-012AB; Code_IPC: SOIC127P600-14; ComponentLink1Description: Manufacturer URL; ComponentLink1URL: http://www.national.com/; ComponentLink2Description: LMH6574 Datasheet; ComponentLink2URL: http://www.national.com/ds/LM/LMH6574.pdf; ComponentLink3Description: LMH6574 Web Page; ComponentLink3URL: http://www.national.com/pf/LM/LMH6574.html; ComponentLink4Description: M14A Package Page; ComponentLink4URL: http://www.national.com/packaging/folders/m14a.html
footprint M14A_N (SOIC, 14-Leads, Body 8.6x3.9mm, Pitch 1.27mm, IPC Medium Density)
footprint M14A_L (SOIC, 14-Leads, Body 8.6x3.9mm, Pitch 1.27mm, IPC High Density)
footprint M14A_M (SOIC, 14-Leads, Body 8.6x3.9mm, Pitch 1.27mm, IPC Low Density)
pins: 1 IN0 (in), 2 GND (power), 3 IN1 (in), 4 GND (power), 5 IN2 (in), 6 V- (power), 7 IN3 (in), 8 A0 (in), 9 A1 (in), 10 ~{EN} (in), 11 SD (in), 12 FB (in), 13 OUT (out), 14 V+ (power)

## LMH6580VS
designator U?
8x4 500 MHz Analog Crosspoint Switch, Gain of 1, Gain of 2, 48-pin TQFP; PartNumber: LMH6580VS; Manufacturer: National Semiconductor; PackageTopMarking: NSUZXYTT*LMH6580*VS; PowerWise: N; CompType: Amplifiers; High-Reliability: Y; DatasheetVersion: Sep-2007; PackageVersion: revA, Apr-2000; PackageReference: VBC48A; PackageDescription: TQFP, Jedec Metric, 7 x 7 x 1mm, 48 Lead, 0.5mm Pitch; RoHS: Y; PinCount: 48; Code_JEDEC: MS-026-ABC; ComponentLink1Description: Manufacturer URL; ComponentLink1URL: http://www.national.com/; ComponentLink2Description: LMH6580 Datasheet; ComponentLink2URL: http://www.national.com/ds/LM/LMH6580.pdf; ComponentLink3Description: LMH6580 Web Page; ComponentLink3URL: http://www.national.com/pf/LM/LMH6580.html; ComponentLink4Description: VBC48A Package Page; ComponentLink4URL: http://www.national.com/packaging/folders/vbc48a.html
footprint VBC48A_N (Thin QFP, 48-Leads, Body 7x7mm, Pitch 0.5mm, IPC Medium Density)
footprint VBC48A_L (Thin QFP, 48-Leads, Body 7x7mm, Pitch 0.5mm, IPC High Density)
footprint VBC48A_M (Thin QFP, 48-Leads, Body 7x7mm, Pitch 0.5mm, IPC Low Density)
part A pins: 2 OUT0 (out), 7 OUT1 (out), 9 RST (in), 10 MODE (in), 11 ~{CS} (in), 12 DIN (in), 13 DOUT (out), 14 CLK (in), 15 CFG (in), 16 BCST (in), 18 OUT2 (out), 23 OUT3 (out), 26 IN0 (in), 29 IN1 (in), 32 IN2 (in), 35 IN3 (in), 38 IN4 (in), 41 IN5 (in), 44 IN6 (in), 47 IN7 (in)
part B pins: 1 VEE (power), 3 GND (power), 4 VCC (power), 5 VCC (power), 6 GND (power), 8 VEE (power), 17 VEE (power), 19 GND (power), 20 VCC (power), 21 VCC (power), 22 GND (power), 24 VEE (power), 25 GND (power), 27 VEE (power), 28 VEE (power), 30 VCC (power), 31 VCC (power), 33 VEE (power), 34 GND (power), 36 GND (power), 37 GND (power), 39 GND (power), 40 VEE (power), 42 VCC (power), 43 VCC (power), 45 VEE (power), 46 VEE (power), 48 GND (power)

## LMH6580VS/NOPB
designator U?
8x4 500 MHz Analog Crosspoint Switch, Gain of 1, Gain of 2, 48-pin TQFP, Pb-Free; PartNumber: LMH6580VS/NOPB; Manufacturer: National Semiconductor; PackageTopMarking: NSUZXYTT*LMH6580*VS; PowerWise: N; CompType: Amplifiers; High-Reliability: Y; DatasheetVersion: Sep-2007; PackageVersion: revA, Apr-2000; PackageReference: VBC48A; PackageDescription: TQFP, Jedec Metric, 7 x 7 x 1mm, 48 Lead, 0.5mm Pitch; RoHS: Y; PinCount: 48; Code_JEDEC: MS-026-ABC; ComponentLink1Description: Manufacturer URL; ComponentLink1URL: http://www.national.com/; ComponentLink2Description: LMH6580 Datasheet; ComponentLink2URL: http://www.national.com/ds/LM/LMH6580.pdf; ComponentLink3Description: LMH6580 Web Page; ComponentLink3URL: http://www.national.com/pf/LM/LMH6580.html; ComponentLink4Description: VBC48A Package Page; ComponentLink4URL: http://www.national.com/packaging/folders/vbc48a.html
footprint VBC48A_N (Thin QFP, 48-Leads, Body 7x7mm, Pitch 0.5mm, IPC Medium Density)
footprint VBC48A_L (Thin QFP, 48-Leads, Body 7x7mm, Pitch 0.5mm, IPC High Density)
footprint VBC48A_M (Thin QFP, 48-Leads, Body 7x7mm, Pitch 0.5mm, IPC Low Density)
part A pins: 2 OUT0 (out), 7 OUT1 (out), 9 RST (in), 10 MODE (in), 11 ~{CS} (in), 12 DIN (in), 13 DOUT (out), 14 CLK (in), 15 CFG (in), 16 BCST (in), 18 OUT2 (out), 23 OUT3 (out), 26 IN0 (in), 29 IN1 (in), 32 IN2 (in), 35 IN3 (in), 38 IN4 (in), 41 IN5 (in), 44 IN6 (in), 47 IN7 (in)
part B pins: 1 VEE (power), 3 GND (power), 4 VCC (power), 5 VCC (power), 6 GND (power), 8 VEE (power), 17 VEE (power), 19 GND (power), 20 VCC (power), 21 VCC (power), 22 GND (power), 24 VEE (power), 25 GND (power), 27 VEE (power), 28 VEE (power), 30 VCC (power), 31 VCC (power), 33 VEE (power), 34 GND (power), 36 GND (power), 37 GND (power), 39 GND (power), 40 VEE (power), 42 VCC (power), 43 VCC (power), 45 VEE (power), 46 VEE (power), 48 GND (power)

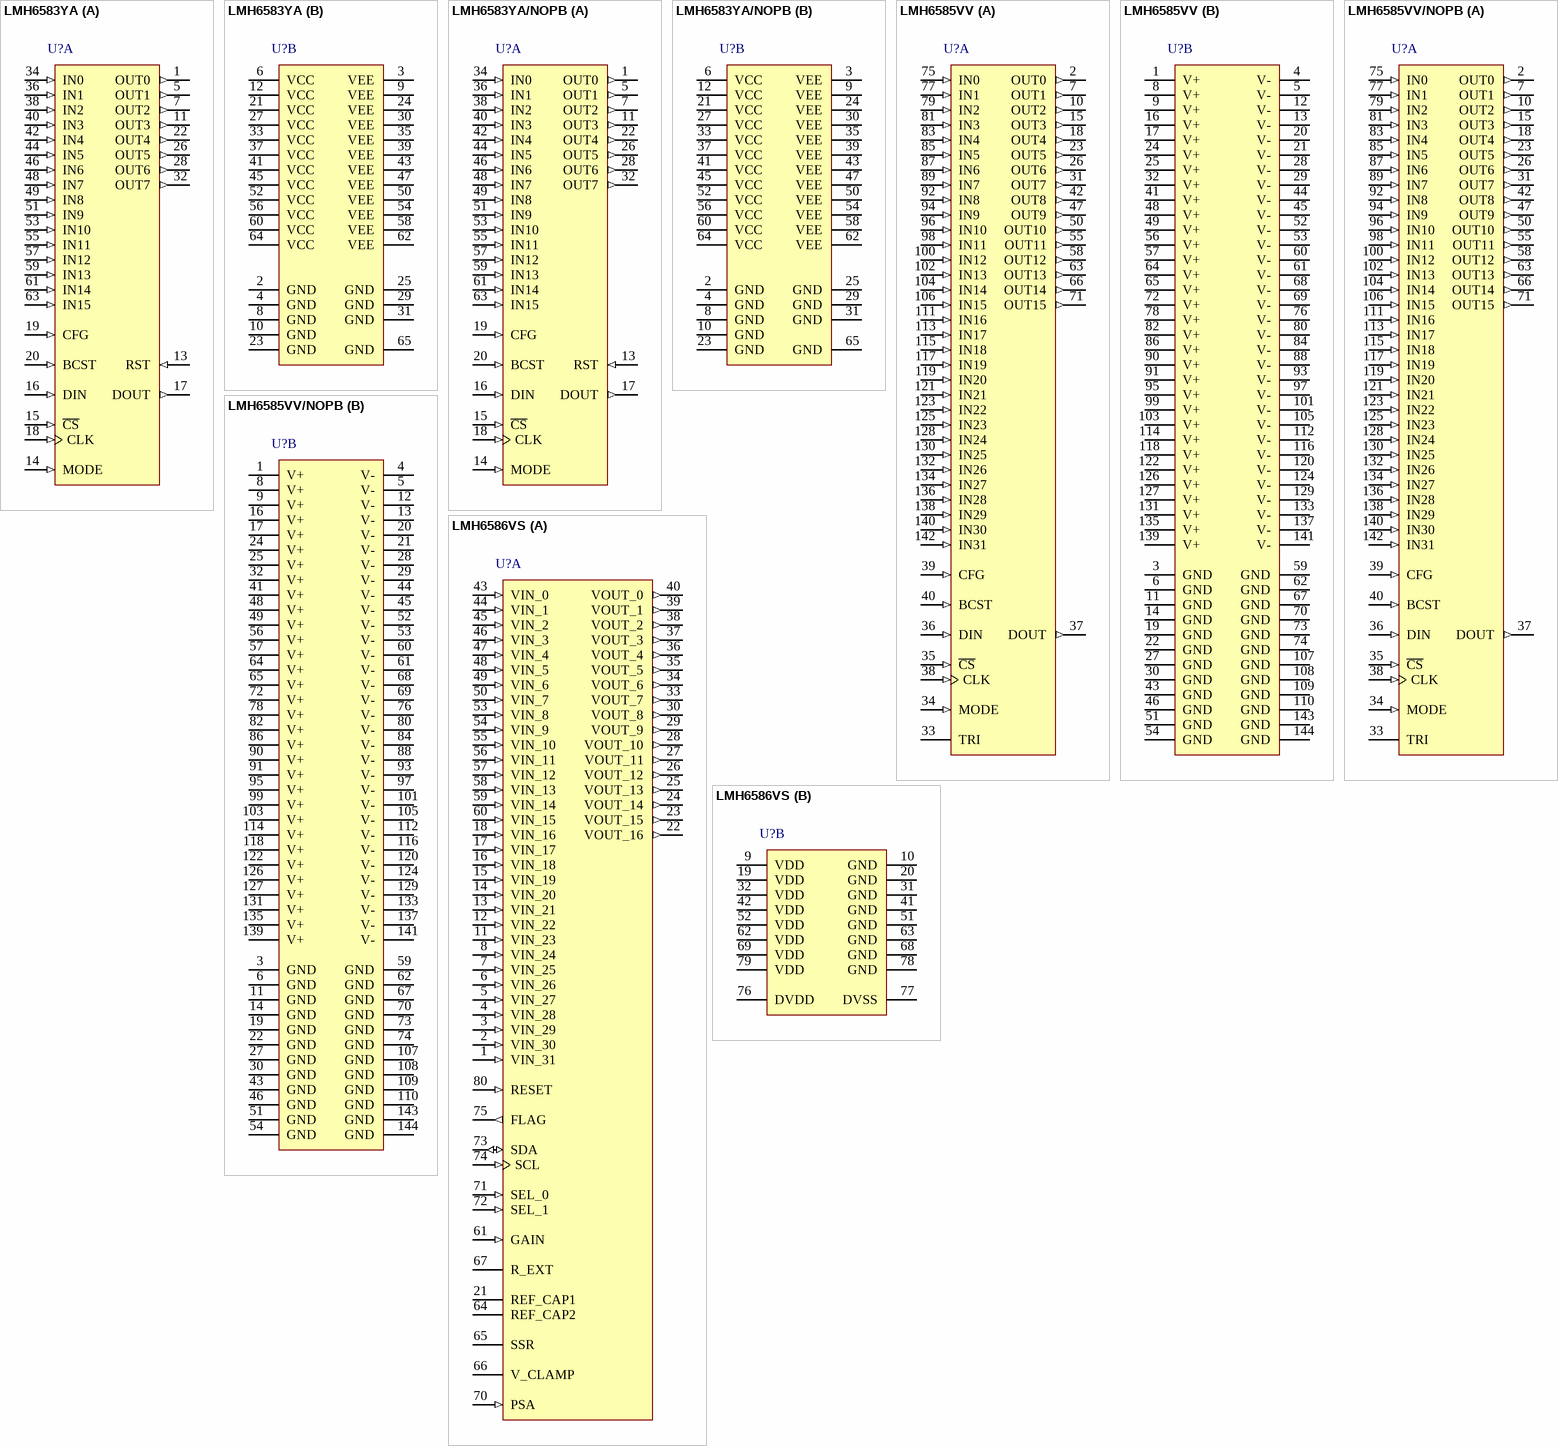
[diagram p43: symbols LMH6583YA to LMH6586VS]

## LMH6583YA
designator U?
16x8 550 MHz Analog Crosspoint Switch, Gain of 2, 65-pin TQFP-EP; PartNumber: LMH6583YA; Manufacturer: National Semiconductor; PackageTopMarking: NSUZXYYTT*LMH6583YA; PowerWise: N; CompType: Amplifiers; High-Reliability: Y; DatasheetVersion: Aug-2007; PackageVersion: revA, May-2004; PackageReference: VXE64A; PackageDescription: TQFP, 10x10x1mm Body, 64 Lead, 0.5mm Pitch, Exposed Pad; RoHS: Y; PinCount: 64; Code_JEDEC: MS-026-ACD; ComponentLink1Description: Manufacturer URL; ComponentLink1URL: http://www.national.com/; ComponentLink2Description: LMH6583 Datasheet; ComponentLink2URL: http://www.national.com/ds/LM/LMH6583.pdf; ComponentLink3Description: LMH6583 Web Page; ComponentLink3URL: http://www.national.com/pf/LM/LMH6583.html; ComponentLink4Description: VXE64A Package Page; ComponentLink4URL: http://www.national.com/packaging/folders/vxe64a.html
footprint VXE64A_N (Thin QFP, 64-Leads, Body 10x10mm, Pitch 0.5mm, Exposed Pad, IPC Medium Density)
footprint VXE64A_L (Thin QFP, 64-Leads, Body 10x10mm, Pitch 0.5mm, Exposed Pad, IPC High Density)
footprint VXE64A_M (Thin QFP, 64-Leads, Body 10x10mm, Pitch 0.5mm, Exposed Pad, IPC Low Density)
part A pins: 1 OUT0 (out), 5 OUT1 (out), 7 OUT2 (out), 11 OUT3 (out), 13 RST (in), 14 MODE (in), 15 ~{CS} (in), 16 DIN (in), 17 DOUT (out), 18 CLK (in), 19 CFG (in), 20 BCST (in), 22 OUT4 (out), 26 OUT5 (out), 28 OUT6 (out), 32 OUT7 (out), 34 IN0 (in), 36 IN1 (in), 38 IN2 (in), 40 IN3 (in), 42 IN4 (in), 44 IN5 (in), 46 IN6 (in), 48 IN7 (in), 49 IN8 (in), 51 IN9 (in), 53 IN10 (in), 55 IN11 (in), 57 IN12 (in), 59 IN13 (in), 61 IN14 (in), 63 IN15 (in)
part B pins: 2 GND (power), 3 VEE (power), 4 GND (power), 6 VCC (power), 8 GND (power), 9 VEE (power), 10 GND (power), 12 VCC (power), 21 VCC (power), 23 GND (power), 24 VEE (power), 25 GND (power), 27 VCC (power), 29 GND (power), 30 VEE (power), 31 GND (power), 33 VCC (power), 35 VEE (power), 37 VCC (power), 39 VEE (power), 41 VCC (power), 43 VEE (power), 45 VCC (power), 47 VEE (power), 50 VEE (power), 52 VCC (power), 54 VEE (power), 56 VCC (power), 58 VEE (power), 60 VCC (power), 62 VEE (power), 64 VCC (power), 65 GND (power)